# Altium schematic symbol library I7C4W012A050V-001-R.SchLib: 1 symbol
Pins are listed as number, name and electrical type; pins without a type are passive.

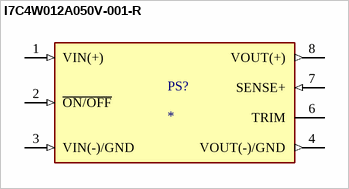
[diagram p0: symbol I7C4W012A050V-001-R]

## I7C4W012A050V-001-R
designator PS?
Non-Isolated PoL Module DC DC Converter 1 Output 5 ~ 28V - - - 12.5A 9V - 53V Input; MF: TDK-Lambda Americas Inc; MP: I7C4W012A050V-001-R; Value: *; Check_prices: https://www.snapeda.com/parts/I7C4W012A050V-001-R/TDK-Lambda+Americas+Inc/view-part/?ref=eda; Price: None; Purchase-URL: https://pricing.snapeda.com/search/part/I7C4W012A050V-001-R/?ref=eda; Availability: In Stock; Package: Sixteenth Brick TDK-Lambda Americas Inc.; SnapEDA_Link: https://www.snapeda.com/parts/I7C4W012A050V-001-R/TDK-Lambda+Americas+Inc/view-part/?ref=snap
footprint CONV_I7C4W012A050V-001-R
pins: 1 VIN(+) (in), 2 ~{ON/OFF} (in), 3 VIN(-)/GND (in), 4 VOUT(-)/GND (out), 6 TRIM, 7 SENSE+ (in), 8 VOUT(+) (out)